# Altium schematic symbol library Transformers.SchLib: 1 symbol
Pins are listed as number, name and electrical type; pins without a type are passive.

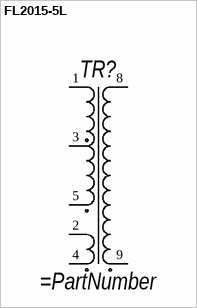
[diagram p0: symbol FL2015-5L]

## FL2015-5L
designator TR?
Coilcraft CCFL transformer
pins: 1, 2, 3, 4, 5, 8, 9